# EAGLE library part HEADER-14X1 (library Controller)
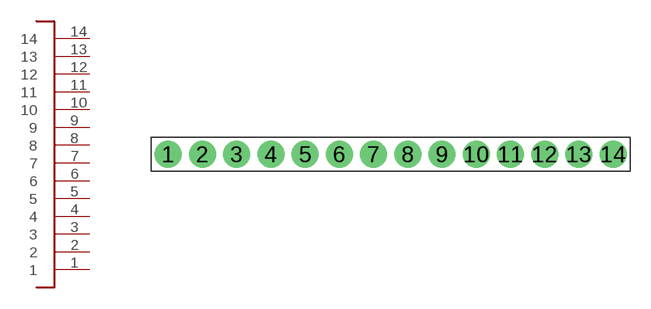
[diagram p22: symbol with the pads of HEADER-14X1-2.54-ROUND; footprint HEADER-14X1-2.54-ROUND]

Designator prefix J

## HEADER-14X1  [HEADER-14X1-2.54-ROUND]
1  1
2  2
3  3
4  4
5  5
6  6
7  7
8  8
9  9
10  10
11  11
12  12
13  13
14  14

## Footprint HEADER-14X1-2.54-ROUND (pad centres in mm)
5 pin 0.1" header
drill 1.05 pad 2: 1 -16.51,0; 2 -13.97,0; 3 -11.43,0; 4 -8.89,0; 5 -6.35,0; 6 -3.81,0; 7 -1.27,0; 8 1.27,0; 9 3.81,0; 10 6.35,0; 11 8.89,0; 12 11.43,0; 13 13.97,0; 14 16.51,0